# EAGLE library part SLG46517V (library GREENPAK)
GreenPAK5 SLG46517V Silego Technology www.silego.com
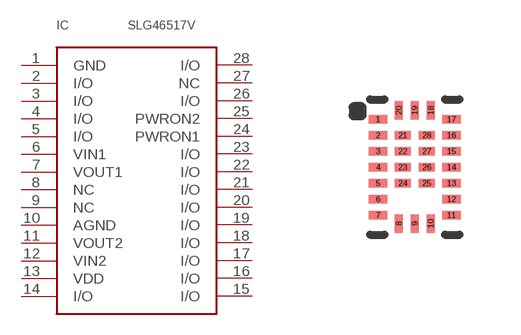
[diagram p27: symbol with the pads of MSTQFN-28L-2.0X3.0_N; footprint MSTQFN-28L-2.0X3.0_N]

Designator prefix IC

## SLG46517V  [MSTQFN-28L-2.0X3.0_N]
1  GND  pwr
2  I/O
3  I/O
4  I/O
5  I/O
6  VIN1
7  VOUT1
8  NC  nc
9  NC  nc
10  AGND  pwr
11  VOUT2  pwr
12  VIN2  pwr
13  VDD  pwr
14  I/O
15  I/O
16  I/O
17  I/O
18  I/O
19  I/O
20  I/O
21  I/O
22  I/O
23  I/O
24  PWRON1
25  PWRON2
26  I/O
27  NC
28  I/O

## Footprint MSTQFN-28L-2.0X3.0_N (pad centres in mm)
smd 0.465 x 0.21: 1 -0.917,1.2; 2 -0.917,0.8; 3 -0.917,0.4; 4 -0.917,0; 5 -0.917,-0.4; 6 -0.917,-0.8; 7 -0.917,-1.2; 11 0.917,-1.2; 12 0.917,-0.8; 13 0.917,-0.4; 14 0.917,0; 15 0.917,0.4; 16 0.917,0.8; 17 0.917,1.2
smd 0.21 x 0.465: 8 -0.4,-1.417; 9 0,-1.417; 10 0.4,-1.417; 18 0.4,1.417; 19 0,1.417; 20 -0.4,1.417
smd 0.41 x 0.21: 21 -0.3,0.8; 22 -0.3,0.4; 23 -0.3,0; 24 -0.3,-0.4; 25 0.3,-0.4; 26 0.3,0; 27 0.3,0.4; 28 0.3,0.8